# Altium footprint library 2x22-M90_2.54.PcbLib: 1 footprints
Each footprint in its own frame and in the unit in brackets; x right, y up, seen from the top. Pads: shape width x height; smd on the part's side, far side on the other; paste and mask are expansions set on the pad; w line width, h text height; cw(c..) or ccw(c..) is an arc to the next point about the centre after c.
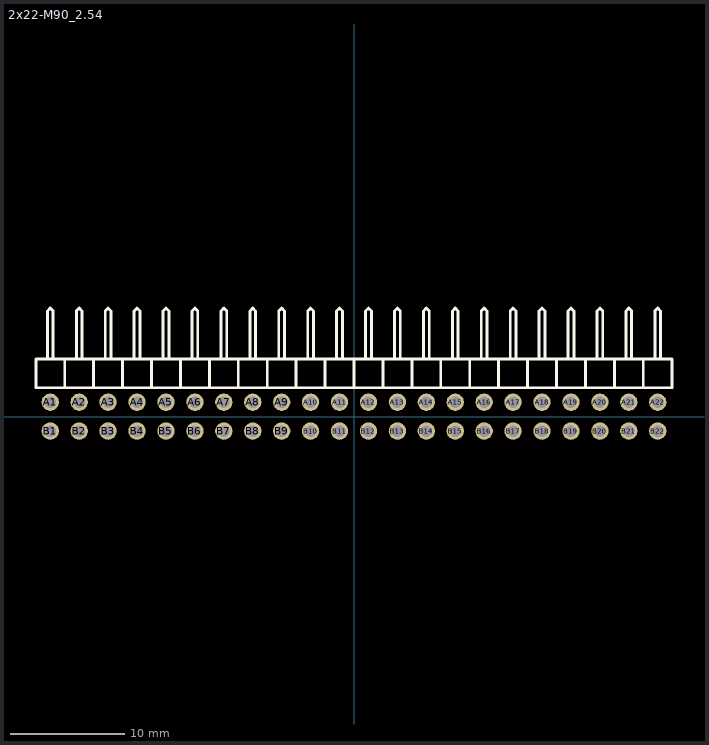
[diagram p0: the footprint, top view; thin cyan lines are the x and y axes]

## 2x22-M90_2.54 [mil]
height 196.85
pads (44):
  round 60 hole 40: A1(-1050,50) A2(-950,50) A3(-850,50) A4(-750,50) A5(-650,50) A6(-550,50) A7(-450,50) A8(-350,50) A9(-250,50) A10(-150,50) A11(-50,50) A12(50,50) A13(150,50) A14(250,50) A15(350,50) A16(450,50) A17(550,50) A18(650,50) A19(750,50) A20(850,50) A21(950,50) A22(1050,50) B1(-1050,-50) B2(-950,-50) B3(-850,-50) B4(-750,-50) B5(-650,-50) B6(-550,-50) B7(-450,-50) B8(-350,-50) B9(-250,-50) B10(-150,-50) B11(-50,-50) B12(50,-50) B13(150,-50) B14(250,-50) B15(350,-50) B16(450,-50) B17(550,-50) B18(650,-50) B19(750,-50) B20(850,-50) B21(950,-50) B22(1050,-50)
Top Overlay:
  lines w10: -1060,200 -1060,365 -1050,375 -1040,365 -1040,200 ; -1000,100 -1000,200 ; -960,200 -960,365 -950,375 -940,365 -940,200 ; -900,100 -900,200 ; -860,200 -860,365 -850,375 -840,365 -840,200 ; -800,100 -800,200 ; -760,200 -760,365 -750,375 -740,365 -740,200 ; -700,100 -700,200 ; -660,200 -660,365 -650,375 -640,365 -640,200 ; -600,100 -600,200 ; -560,200 -560,365 -550,375 -540,365 -540,200 ; -500,100 -500,200 ; -460,200 -460,365 -450,375 -440,365 -440,200 ; -400,100 -400,200 ; -360,200 -360,365 -350,375 -340,365 -340,200 ; -300,100 -300,200 ; -260,200 -260,365 -250,375 -240,365 -240,200 ; -200,100 -200,200 ; -160,200 -160,365 -150,375 -140,365 -140,200 ; -100,100 -100,200 ; -60,200 -60,365 -50,375 -40,365 -40,200 ; 0,100 0,200 ; 40,200 40,365 50,375 60,365 60,200 ; 100,100 100,200 ; 140,200 140,365 150,375 160,365 160,200 ; 200,100 200,200 ; 240,200 240,365 250,375 260,365 260,200 ; 300,100 300,200 ; 340,200 340,365 350,375 360,365 360,200 ; 400,100 400,200 ; 440,200 440,365 450,375 460,365 460,200 ; 500,100 500,200 ; 540,200 540,365 550,375 560,365 560,200 ; 600,100 600,200 ; 640,200 640,365 650,375 660,365 660,200 ; 700,100 700,200 ; 740,200 740,365 750,375 760,365 760,200 ; 800,100 800,200 ; 840,200 840,365 850,375 860,365 860,200 ; 900,100 900,200 ; 940,200 940,365 950,375 960,365 960,200 ; 1000,100 1000,200 ; 1040,200 1040,365 1050,375 1060,365 1060,200 ; -1100,100 1100,100 1100,200 -1100,200 -1100,100
Mechanical 13:
  lines w3.94: -1100,100 1100,100 1100,200 -1100,200 -1100,100
3D body: height 162.99, standoff 137.8, extent 1040,200 1060,375
3D body: height 162.99, standoff 137.8, extent 940,200 960,375
3D body: height 162.99, standoff 137.8, extent 840,200 860,375
3D body: height 162.99, standoff 137.8, extent 740,200 760,375
3D body: height 162.99, standoff 137.8, extent 640,200 660,375
3D body: height 162.99, standoff 137.8, extent 540,200 560,375
3D body: height 162.99, standoff 137.8, extent 440,200 460,375
3D body: height 162.99, standoff 137.8, extent 340,200 360,375
3D body: height 162.99, standoff 137.8, extent 240,200 260,375
3D body: height 162.99, standoff 137.8, extent 140,200 160,375
3D body: height 162.99, standoff 137.8, extent 40,200 60,375
3D body: height 162.99, standoff 137.8, extent -60,200 -40,375
3D body: height 162.99, standoff 137.8, extent -160,200 -140,375
3D body: height 162.99, standoff 137.8, extent -260,200 -240,375
3D body: height 162.99, standoff 137.8, extent -360,200 -340,375
3D body: height 162.99, standoff 137.8, extent -460,200 -440,375
3D body: height 162.99, standoff 137.8, extent -560,200 -540,375
3D body: height 162.99, standoff 137.8, extent -660,200 -640,375
3D body: height 162.99, standoff 137.8, extent -760,200 -740,375
3D body: height 162.99, standoff 137.8, extent -860,200 -840,375
3D body: height 162.99, standoff 137.8, extent -960,200 -940,375
3D body: height 162.99, standoff 137.8, extent -1060,200 -1040,375
3D body: height 196.85, standoff 0, extent -1101.97,98.03 1101.97,201.97
3D body: height 64.57, standoff 39.37, extent -1060,200 -1040,375
3D body: height 64.57, standoff 39.37, extent -960,200 -940,375
3D body: height 64.57, standoff 39.37, extent -860,200 -840,375
3D body: height 64.57, standoff 39.37, extent -760,200 -740,375
3D body: height 64.57, standoff 39.37, extent -660,200 -640,375
3D body: height 64.57, standoff 39.37, extent -560,200 -540,375
3D body: height 64.57, standoff 39.37, extent -460,200 -440,375
3D body: height 64.57, standoff 39.37, extent -360,200 -340,375
3D body: height 64.57, standoff 39.37, extent -260,200 -240,375
3D body: height 64.57, standoff 39.37, extent -160,200 -140,375
3D body: height 64.57, standoff 39.37, extent -60,200 -40,375
3D body: height 64.57, standoff 39.37, extent 40,200 60,375
3D body: height 64.57, standoff 39.37, extent 140,200 160,375
3D body: height 64.57, standoff 39.37, extent 240,200 260,375
3D body: height 64.57, standoff 39.37, extent 340,200 360,375
3D body: height 64.57, standoff 39.37, extent 440,200 460,375
3D body: height 64.57, standoff 39.37, extent 540,200 560,375
3D body: height 64.57, standoff 39.37, extent 640,200 660,375
3D body: height 64.57, standoff 39.37, extent 740,200 760,375
3D body: height 64.57, standoff 39.37, extent 840,200 860,375
3D body: height 64.57, standoff 39.37, extent 940,200 960,375
3D body: height 64.57, standoff 39.37, extent 1040,200 1060,375